# Altium footprint library RES-2W_2.PcbLib: 1 footprints
Each footprint in its own frame and in the unit in brackets; x right, y up, seen from the top. Pads: shape width x height; smd on the part's side, far side on the other; paste and mask are expansions set on the pad; w line width, h text height; cw(c..) or ccw(c..) is an arc to the next point about the centre after c.
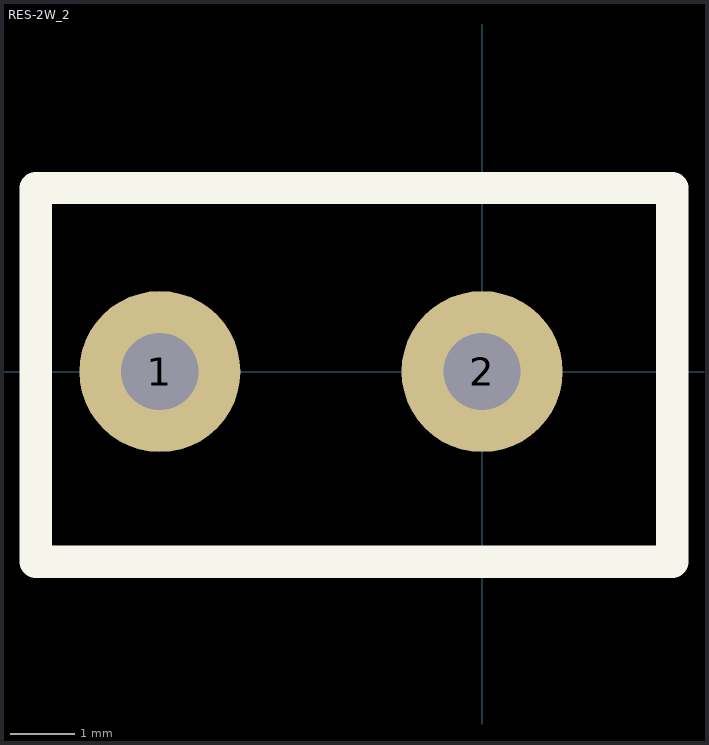
[diagram p0: the footprint, top view; thin cyan lines are the x and y axes]

## RES-2W_2 [mm]
height 0.55
pads (2):
  round 2.5 hole 1.2: 1(-5,0) 2(0,0)
Top Overlay:
  lines w0.5: -6.925,-2.95 2.95,-2.95 2.95,2.85 -6.925,2.85 -6.925,-2.95
Top Assembly:
  lines w0.1: -6.925,-2.95 -6.925,2.875 2.95,2.875 2.95,-2.95 -6.925,-2.95
  text "'.Designator'" at -2.3,-0.225 h0.7
3D body "CircuitWorks-2W CARBON FILM RESISTOR.STEP": height 21.6, standoff -4, extent -5.4,-2.6 2.6,2.6